# EAGLE library part UNICS-E01-ML01DP5 (library cansat-lib)
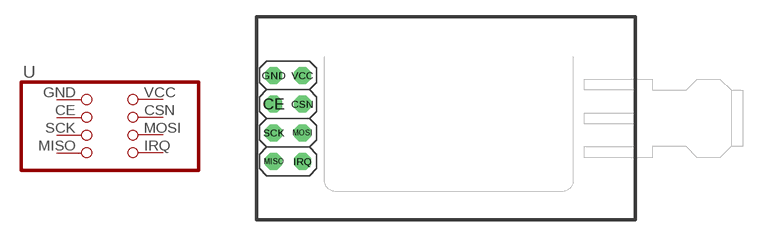
[diagram p12: symbol with the pads of UNICS-RM-E01-ML01DP5; footprint UNICS-RM-E01-ML01DP5]

Designator prefix -

## UNICS-E01-ML01DP5  [UNICS-RM-E01-ML01DP5]
CE  CE
CSN  CSN
GND  GND
IRQ  IRQ
MISO  MISO
MOSI  MOSI
SCK  SCK
VCC  VCC

## Footprint UNICS-RM-E01-ML01DP5 (pad centres in mm)
drill 1 octagon: CE 0,1.27; CSN 2.54,1.27; GND 0,3.81; IRQ 2.54,-3.81; MISO 0,-3.81; MOSI 2.54,-1.27; SCK 0,-1.27; VCC 2.54,3.81